# Altium footprint library Infineon Power MOSFET.PcbLib: 137 footprints (part 5 of 9)
Each footprint in its own frame and in the unit in brackets; x right, y up, seen from the top. Pads: shape width x height; smd on the part's side, far side on the other; paste and mask are expansions set on the pad; w line width, h text height; cw(c..) or ccw(c..) is an arc to the next point about the centre after c.
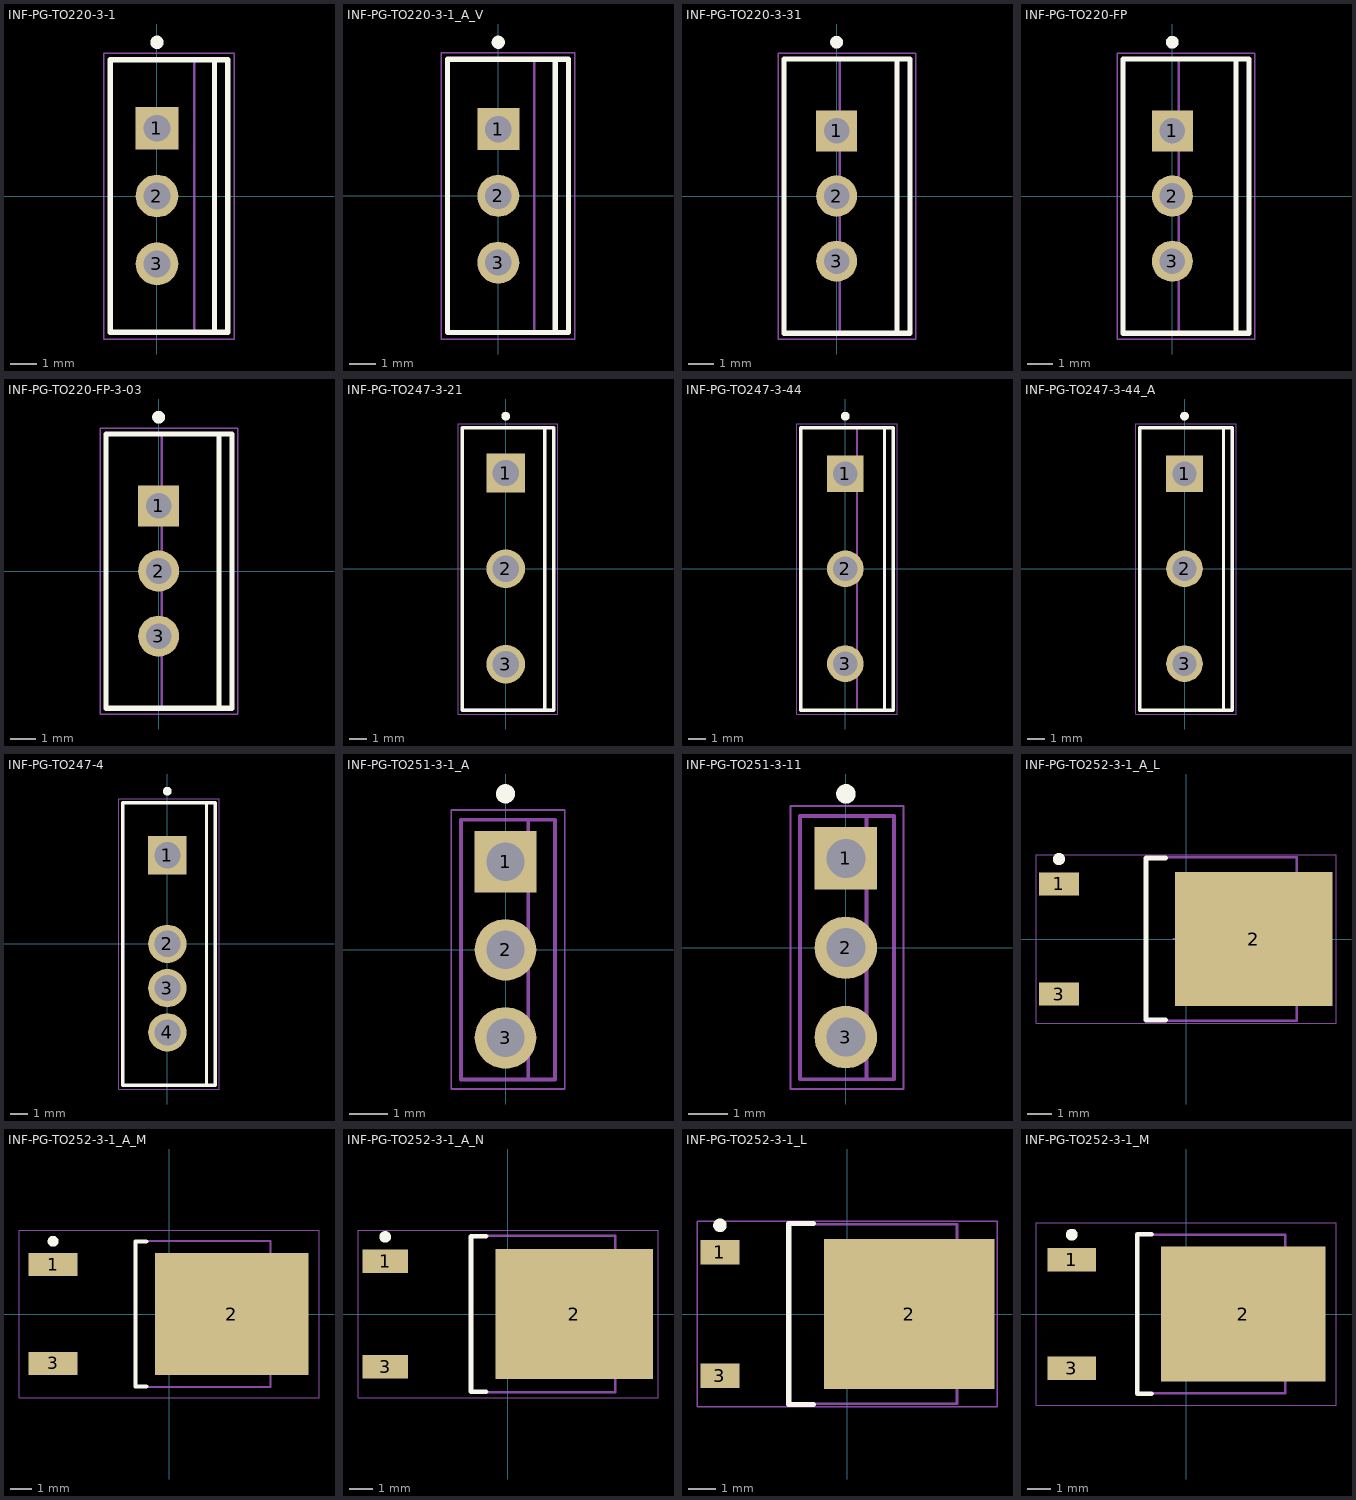
[diagram p4: the footprints below, top view; thin cyan lines are the x and y axes]

## INF-PG-TO220-3-1 [mm] "FM, 3-Leads, Body 10x4.4mm, Pitch 2.54mm"
height 20.7
pads (3):
  rect 1.6x1.6 hole 1: 1(0,2.54)
  round 1.6 hole 1: 2(0,0) 3(0,-2.54)
Top Overlay:
  circle w0.25: c0,5.75 r0.125
  lines w0.2: 2.15,-5.1 2.15,5.1 ; -1.75,-5.1 2.65,-5.1 2.65,5.1 -1.75,5.1 -1.75,-5.1
Mechanical 13:
  lines w0.1: 1.4,-5.1 1.4,5.1 ; -1.75,-5.1 -1.75,5.1 2.65,5.1 2.65,-5.1 -1.75,-5.1
Mechanical 15:
  lines w0.05: -2,-5.35 -2,5.35 2.9,5.35 2.9,-5.35 -2,-5.35
  lines w0.1: -0.5,0 0.5,0 ; 0,-0.5 0,0.5
3D body: height 4.35, standoff 0, extent -0.25,2.015 0.25,3.065
3D body: height 0, standoff -1.6, extent -0.25,2.165 0.25,2.915
3D body: height 4.35, standoff 0, extent -0.25,-0.525 0.25,0.525
3D body: height 0, standoff -1.6, extent -0.25,-0.375 0.25,0.375
3D body: height 4.35, standoff 0, extent -0.25,-3.065 0.25,-2.015
3D body: height 0, standoff -1.6, extent -0.25,-2.915 0.25,-2.165
3D body: height 14.3, standoff 4.35, extent -1.75,-5.1 2.65,5.1
3D body: height 16.08, standoff 14.3, extent 1.4,-4.95 2.65,4.95
3D body: height 16.12, standoff 16.08, extent 1.4,0.356 2.65,4.95
3D body: height 16.12, standoff 16.08, extent 1.4,-4.95 2.65,-0.356
3D body: height 19.73, standoff 19.69, extent 1.4,0.356 2.65,4.95
3D body: height 19.73, standoff 19.69, extent 1.4,-4.95 2.65,-0.356
3D body: height 16.22, standoff 16.11, extent 1.4,0.698 2.65,4.95
3D body: height 16.22, standoff 16.11, extent 1.4,-4.95 2.65,-0.698
3D body: height 19.69, standoff 19.59, extent 1.4,0.698 2.65,4.95
3D body: height 19.69, standoff 19.59, extent 1.4,-4.95 2.65,-0.698
3D body: height 16.39, standoff 16.21, extent 1.4,1.014 2.65,4.95
3D body: height 16.39, standoff 16.21, extent 1.4,-4.95 2.65,-1.014
3D body: height 19.59, standoff 19.42, extent 1.4,1.014 2.65,4.95
3D body: height 19.59, standoff 19.42, extent 1.4,-4.95 2.65,-1.014
3D body: height 16.61, standoff 16.38, extent 1.4,1.29 2.65,4.95
3D body: height 16.61, standoff 16.38, extent 1.4,-4.95 2.65,-1.29
3D body: height 19.42, standoff 19.19, extent 1.4,1.29 2.65,4.95
3D body: height 19.42, standoff 19.19, extent 1.4,-4.95 2.65,-1.29
3D body: height 16.89, standoff 16.61, extent 1.4,1.517 2.65,4.95
3D body: height 16.89, standoff 16.61, extent 1.4,-4.95 2.65,-1.517
3D body: height 19.2, standoff 18.91, extent 1.4,1.517 2.65,4.95
3D body: height 19.2, standoff 18.91, extent 1.4,-4.95 2.65,-1.517
3D body: height 17.21, standoff 16.89, extent 1.4,1.686 2.65,4.95
3D body: height 17.21, standoff 16.89, extent 1.4,-4.95 2.65,-1.686
3D body: height 18.92, standoff 18.6, extent 1.4,1.686 2.65,4.95
3D body: height 18.92, standoff 18.6, extent 1.4,-4.95 2.65,-1.686
3D body: height 17.55, standoff 17.2, extent 1.4,1.79 2.65,4.95
3D body: height 17.55, standoff 17.2, extent 1.4,-4.95 2.65,-1.79
3D body: height 18.6, standoff 18.26, extent 1.4,1.79 2.65,4.95
3D body: height 18.6, standoff 18.26, extent 1.4,-4.95 2.65,-1.79
3D body: height 17.9, standoff 17.54, extent 1.4,1.825 2.65,4.95
3D body: height 17.9, standoff 17.54, extent 1.4,-4.95 2.65,-1.825
3D body: height 18.26, standoff 17.9, extent 1.4,1.825 2.65,4.95
3D body: height 18.26, standoff 17.9, extent 1.4,-4.95 2.65,-1.825
3D body: height 20.7, standoff 19.73, extent 1.4,-4.95 2.65,4.95

## INF-PG-TO220-3-1_A_V [mm] "FM, 3-Leads, Body 10.03x8.98mm, Pitch 2.54mm"
height 20.75
pads (3):
  rect 1.6x1.6 hole 1: 1(0,2.54)
  round 1.6 hole 1: 2(0,0) 3(0,-2.54)
Top Overlay:
  circle w0.25: c0,5.85 r0.125
  lines w0.2: 2.17,-5.2 2.17,5.2 ; -1.93,-5.2 2.67,-5.2 2.67,5.2 -1.93,5.2 -1.93,-5.2
Mechanical 13:
  lines w0.1: 1.37,-5.2 1.37,5.2 ; -1.93,-5.2 -1.93,5.2 2.67,5.2 2.67,-5.2 -1.93,-5.2
Mechanical 15:
  lines w0.05: -2.18,-5.45 -2.18,5.45 2.92,5.45 2.92,-5.45 -2.18,-5.45
  lines w0.1: -0.5,0 0.5,0 ; 0,-0.5 0,0.5
3D body: height 4.8, standoff 0, extent -0.235,1.95 0.235,3.13
3D body: height 0, standoff -1.6, extent -0.235,2.16 0.235,2.92
3D body: height 4.8, standoff 0, extent -0.235,-0.59 0.235,0.59
3D body: height 0, standoff -1.6, extent -0.235,-0.38 0.235,0.38
3D body: height 4.8, standoff 0, extent -0.235,-3.13 0.235,-1.95
3D body: height 0, standoff -1.6, extent -0.235,-2.92 0.235,-2.16
3D body: height 14.35, standoff 4.8, extent -1.93,-5.2 2.67,5.2
3D body: height 16.08, standoff 14.35, extent 1.37,-5.025 2.67,5.025
3D body: height 16.12, standoff 16.08, extent 1.37,0.366 2.67,5.025
3D body: height 16.12, standoff 16.08, extent 1.37,-5.025 2.67,-0.366
3D body: height 19.83, standoff 19.79, extent 1.37,0.366 2.67,5.025
3D body: height 19.83, standoff 19.79, extent 1.37,-5.025 2.67,-0.366
3D body: height 16.22, standoff 16.11, extent 1.37,0.718 2.67,5.025
3D body: height 16.22, standoff 16.11, extent 1.37,-5.025 2.67,-0.718
3D body: height 19.79, standoff 19.68, extent 1.37,0.718 2.67,5.025
3D body: height 19.79, standoff 19.68, extent 1.37,-5.025 2.67,-0.718
3D body: height 16.4, standoff 16.22, extent 1.37,1.042 2.67,5.025
3D body: height 16.4, standoff 16.22, extent 1.37,-5.025 2.67,-1.042
3D body: height 19.69, standoff 19.51, extent 1.37,1.042 2.67,5.025
3D body: height 19.69, standoff 19.51, extent 1.37,-5.025 2.67,-1.042
3D body: height 16.63, standoff 16.39, extent 1.37,1.326 2.67,5.025
3D body: height 16.63, standoff 16.39, extent 1.37,-5.025 2.67,-1.326
3D body: height 19.51, standoff 19.28, extent 1.37,1.326 2.67,5.025
3D body: height 19.51, standoff 19.28, extent 1.37,-5.025 2.67,-1.326
3D body: height 16.91, standoff 16.62, extent 1.37,1.559 2.67,5.025
3D body: height 16.91, standoff 16.62, extent 1.37,-5.025 2.67,-1.559
3D body: height 19.28, standoff 18.99, extent 1.37,1.559 2.67,5.025
3D body: height 19.28, standoff 18.99, extent 1.37,-5.025 2.67,-1.559
3D body: height 17.24, standoff 16.91, extent 1.37,1.732 2.67,5.025
3D body: height 17.24, standoff 16.91, extent 1.37,-5.025 2.67,-1.732
3D body: height 19, standoff 18.67, extent 1.37,1.732 2.67,5.025
3D body: height 19, standoff 18.67, extent 1.37,-5.025 2.67,-1.732
3D body: height 17.59, standoff 17.23, extent 1.37,1.839 2.67,5.025
3D body: height 17.59, standoff 17.23, extent 1.37,-5.025 2.67,-1.839
3D body: height 18.67, standoff 18.32, extent 1.37,1.839 2.67,5.025
3D body: height 18.67, standoff 18.32, extent 1.37,-5.025 2.67,-1.839
3D body: height 17.95, standoff 17.58, extent 1.37,1.875 2.67,5.025
3D body: height 17.95, standoff 17.58, extent 1.37,-5.025 2.67,-1.875
3D body: height 18.32, standoff 17.95, extent 1.37,1.875 2.67,5.025
3D body: height 18.32, standoff 17.95, extent 1.37,-5.025 2.67,-1.875
3D body: height 20.75, standoff 19.83, extent 1.37,-5.025 2.67,5.025

## INF-PG-TO220-3-31 [mm] "FM, 3-Leads, Body 10.5x4.7mm, Pitch 2.54mm"
height 19.6
pads (3):
  rect 1.6x1.6 hole 1: 1(0,2.54)
  round 1.6 hole 1: 2(0,0) 3(0,-2.54)
Top Overlay:
  circle w0.25: c0,6 r0.125
  lines w0.2: 2.355,-5.35 2.355,5.35 ; -2.045,-5.35 -2.045,5.35 2.855,5.35 2.855,-5.35 -2.045,-5.35
Mechanical 13:
  lines w0.1: 0.13,-5.325 0.13,5.325 ; -2.02,-5.325 2.83,-5.325 2.83,5.325 -2.02,5.325 -2.02,-5.325
Mechanical 15:
  lines w0.05: -2.27,-5.575 3.08,-5.575 3.08,5.575 -2.27,5.575 -2.27,-5.575
  lines w0.1: -0.5,0 0.5,0 ; 0,-0.5 0,0.5
3D body: height 19.6, standoff 17.8, extent 0.13,-5.25 2.83,5.25
3D body: height 16.56, standoff 16.25, extent 0.13,-5.25 2.83,-1.55
3D body: height 16.56, standoff 16.25, extent 0.13,1.55 2.83,5.25
3D body: height 16.25, standoff 15.95, extent 0.13,-5.25 2.83,-1.55
3D body: height 16.25, standoff 15.95, extent 0.13,1.55 2.83,5.25
3D body: height 16.85, standoff 16.55, extent 0.13,-5.25 2.83,-1.52
3D body: height 16.85, standoff 16.55, extent 0.13,1.52 2.83,5.25
3D body: height 15.95, standoff 15.66, extent 0.13,-5.25 2.83,-1.52
3D body: height 15.95, standoff 15.66, extent 0.13,1.52 2.83,5.25
3D body: height 17.12, standoff 16.84, extent 0.13,-5.25 2.83,-1.432
3D body: height 17.12, standoff 16.84, extent 0.13,1.432 2.83,5.25
3D body: height 15.66, standoff 15.39, extent 0.13,-5.25 2.83,-1.432
3D body: height 15.66, standoff 15.39, extent 0.13,1.432 2.83,5.25
3D body: height 17.35, standoff 17.11, extent 0.13,-5.25 2.83,-1.289
3D body: height 17.35, standoff 17.11, extent 0.13,1.289 2.83,5.25
3D body: height 15.39, standoff 15.15, extent 0.13,-5.25 2.83,-1.289
3D body: height 15.39, standoff 15.15, extent 0.13,1.289 2.83,5.25
3D body: height 17.54, standoff 17.35, extent 0.13,-5.25 2.83,-1.096
3D body: height 17.54, standoff 17.35, extent 0.13,1.096 2.83,5.25
3D body: height 15.16, standoff 14.96, extent 0.13,-5.25 2.83,-1.096
3D body: height 15.16, standoff 14.96, extent 0.13,1.096 2.83,5.25
3D body: height 17.69, standoff 17.54, extent 0.13,-5.25 2.83,-0.861
3D body: height 17.69, standoff 17.54, extent 0.13,0.861 2.83,5.25
3D body: height 14.97, standoff 14.82, extent 0.13,-5.25 2.83,-0.861
3D body: height 14.97, standoff 14.82, extent 0.13,0.861 2.83,5.25
3D body: height 17.78, standoff 17.68, extent 0.13,-5.25 2.83,-0.593
3D body: height 17.78, standoff 17.68, extent 0.13,0.593 2.83,5.25
3D body: height 14.82, standoff 14.73, extent 0.13,-5.25 2.83,-0.593
3D body: height 14.82, standoff 14.73, extent 0.13,0.593 2.83,5.25
3D body: height 17.8, standoff 17.77, extent 0.13,-5.25 2.83,-0.302
3D body: height 17.8, standoff 17.77, extent 0.13,0.302 2.83,5.25
3D body: height 14.73, standoff 14.7, extent 0.13,-5.25 2.83,-0.302
3D body: height 14.73, standoff 14.7, extent 0.13,0.302 2.83,5.25
3D body: height 14.7, standoff 13.3, extent 0.13,-5.25 2.83,5.25
3D body: height 13.3, standoff 3.15, extent -2.02,-5.325 2.83,5.325
3D body: height 0, standoff -1.6, extent -0.26,-2.915 0.26,-2.165
3D body: height 3.15, standoff 0, extent -0.26,-3.155 0.26,-1.925
3D body: height 0, standoff -1.6, extent -0.26,-0.375 0.26,0.375
3D body: height 3.15, standoff 0, extent -0.26,-0.615 0.26,0.615
3D body: height 0, standoff -1.6, extent -0.26,2.165 0.26,2.915
3D body: height 3.15, standoff 0, extent -0.26,1.925 0.26,3.155

## INF-PG-TO220-FP [mm] "FM, 3-Leads, Body 10.5x4.7mm, Pitch 2.54mm"
height 19.6
pads (3):
  rect 1.6x1.6 hole 1: 1(0,2.54)
  round 1.6 hole 1: 2(0,0) 3(0,-2.54)
Top Overlay:
  circle w0.25: c0,6 r0.125
  lines w0.2: 2.485,-5.35 2.485,5.35 ; -1.915,-5.35 -1.915,5.35 2.985,5.35 2.985,-5.35 -1.915,-5.35
Mechanical 13:
  lines w0.1: 0.26,-5.325 0.26,5.325 ; -1.89,-5.325 2.96,-5.325 2.96,5.325 -1.89,5.325 -1.89,-5.325
Mechanical 15:
  lines w0.05: -2.14,-5.575 3.21,-5.575 3.21,5.575 -2.14,5.575 -2.14,-5.575
  lines w0.1: -0.5,0 0.5,0 ; 0,-0.5 0,0.5
3D body: height 19.6, standoff 17.8, extent 0.26,-5.25 2.96,5.25
3D body: height 16.56, standoff 16.25, extent 0.26,-5.25 2.96,-1.55
3D body: height 16.56, standoff 16.25, extent 0.26,1.55 2.96,5.25
3D body: height 16.25, standoff 15.95, extent 0.26,-5.25 2.96,-1.55
3D body: height 16.25, standoff 15.95, extent 0.26,1.55 2.96,5.25
3D body: height 16.85, standoff 16.55, extent 0.26,-5.25 2.96,-1.52
3D body: height 16.85, standoff 16.55, extent 0.26,1.52 2.96,5.25
3D body: height 15.95, standoff 15.66, extent 0.26,-5.25 2.96,-1.52
3D body: height 15.95, standoff 15.66, extent 0.26,1.52 2.96,5.25
3D body: height 17.12, standoff 16.84, extent 0.26,-5.25 2.96,-1.432
3D body: height 17.12, standoff 16.84, extent 0.26,1.432 2.96,5.25
3D body: height 15.66, standoff 15.39, extent 0.26,-5.25 2.96,-1.432
3D body: height 15.66, standoff 15.39, extent 0.26,1.432 2.96,5.25
3D body: height 17.35, standoff 17.11, extent 0.26,-5.25 2.96,-1.289
3D body: height 17.35, standoff 17.11, extent 0.26,1.289 2.96,5.25
3D body: height 15.39, standoff 15.15, extent 0.26,-5.25 2.96,-1.289
3D body: height 15.39, standoff 15.15, extent 0.26,1.289 2.96,5.25
3D body: height 17.54, standoff 17.35, extent 0.26,-5.25 2.96,-1.096
3D body: height 17.54, standoff 17.35, extent 0.26,1.096 2.96,5.25
3D body: height 15.16, standoff 14.96, extent 0.26,-5.25 2.96,-1.096
3D body: height 15.16, standoff 14.96, extent 0.26,1.096 2.96,5.25
3D body: height 17.69, standoff 17.54, extent 0.26,-5.25 2.96,-0.861
3D body: height 17.69, standoff 17.54, extent 0.26,0.861 2.96,5.25
3D body: height 14.97, standoff 14.82, extent 0.26,-5.25 2.96,-0.861
3D body: height 14.97, standoff 14.82, extent 0.26,0.861 2.96,5.25
3D body: height 17.78, standoff 17.68, extent 0.26,-5.25 2.96,-0.593
3D body: height 17.78, standoff 17.68, extent 0.26,0.593 2.96,5.25
3D body: height 14.82, standoff 14.73, extent 0.26,-5.25 2.96,-0.593
3D body: height 14.82, standoff 14.73, extent 0.26,0.593 2.96,5.25
3D body: height 17.8, standoff 17.77, extent 0.26,-5.25 2.96,-0.302
3D body: height 17.8, standoff 17.77, extent 0.26,0.302 2.96,5.25
3D body: height 14.73, standoff 14.7, extent 0.26,-5.25 2.96,-0.302
3D body: height 14.73, standoff 14.7, extent 0.26,0.302 2.96,5.25
3D body: height 14.7, standoff 13.3, extent 0.26,-5.25 2.96,5.25
3D body: height 13.3, standoff 3.15, extent -1.89,-5.325 2.96,5.325
3D body: height 0, standoff -1.6, extent -0.26,-2.915 0.26,-2.165
3D body: height 3.15, standoff 0, extent -0.26,-3.155 0.26,-1.925
3D body: height 0, standoff -1.6, extent -0.26,-0.375 0.26,0.375
3D body: height 3.15, standoff 0, extent -0.26,-0.615 0.26,0.615
3D body: height 0, standoff -1.6, extent -0.26,2.165 0.26,2.915
3D body: height 3.15, standoff 0, extent -0.26,1.925 0.26,3.155

## INF-PG-TO220-FP-3-03 [mm] "FM, 3-Leads, Body 10.65x4.85mm, Pitch 2.54mm"
height 19.6
pads (3):
  rect 1.6x1.6 hole 1: 1(0,2.54)
  round 1.6 hole 1: 2(0,0) 3(0,-2.54)
Top Overlay:
  circle w0.25: c0,6 r0.125
  lines w0.2: 2.355,-5.35 2.355,5.35 ; -2.045,-5.35 2.855,-5.35 2.855,5.35 -2.045,5.35 -2.045,-5.35
Mechanical 13:
  lines w0.1: 0.13,-5.325 0.13,5.325 ; -2.02,-5.325 -2.02,5.325 2.83,5.325 2.83,-5.325 -2.02,-5.325
Mechanical 15:
  lines w0.05: -2.27,-5.575 -2.27,5.575 3.08,5.575 3.08,-5.575 -2.27,-5.575
  lines w0.1: -0.5,0 0.5,0 ; 0,-0.5 0,0.5
3D body: height 3.15, standoff 0, extent -0.26,1.925 0.26,3.155
3D body: height 0, standoff -1.6, extent -0.26,2.165 0.26,2.915
3D body: height 3.15, standoff 0, extent -0.26,-0.615 0.26,0.615
3D body: height 0, standoff -1.6, extent -0.26,-0.375 0.26,0.375
3D body: height 3.15, standoff 0, extent -0.26,-3.155 0.26,-1.925
3D body: height 0, standoff -1.6, extent -0.26,-2.915 0.26,-2.165
3D body: height 13.3, standoff 3.15, extent -2.02,-5.325 2.83,5.325
3D body: height 14.7, standoff 13.3, extent 0.13,-5.25 2.83,5.25
3D body: height 14.73, standoff 14.7, extent 0.13,0.302 2.83,5.25
3D body: height 14.73, standoff 14.7, extent 0.13,-5.25 2.83,-0.302
3D body: height 17.8, standoff 17.77, extent 0.13,0.302 2.83,5.25
3D body: height 17.8, standoff 17.77, extent 0.13,-5.25 2.83,-0.302
3D body: height 14.82, standoff 14.73, extent 0.13,0.593 2.83,5.25
3D body: height 14.82, standoff 14.73, extent 0.13,-5.25 2.83,-0.593
3D body: height 17.78, standoff 17.68, extent 0.13,0.593 2.83,5.25
3D body: height 17.78, standoff 17.68, extent 0.13,-5.25 2.83,-0.593
3D body: height 14.97, standoff 14.82, extent 0.13,0.861 2.83,5.25
3D body: height 14.97, standoff 14.82, extent 0.13,-5.25 2.83,-0.861
3D body: height 17.69, standoff 17.54, extent 0.13,0.861 2.83,5.25
3D body: height 17.69, standoff 17.54, extent 0.13,-5.25 2.83,-0.861
3D body: height 15.16, standoff 14.96, extent 0.13,1.096 2.83,5.25
3D body: height 15.16, standoff 14.96, extent 0.13,-5.25 2.83,-1.096
3D body: height 17.54, standoff 17.35, extent 0.13,1.096 2.83,5.25
3D body: height 17.54, standoff 17.35, extent 0.13,-5.25 2.83,-1.096
3D body: height 15.39, standoff 15.15, extent 0.13,1.289 2.83,5.25
3D body: height 15.39, standoff 15.15, extent 0.13,-5.25 2.83,-1.289
3D body: height 17.35, standoff 17.11, extent 0.13,1.289 2.83,5.25
3D body: height 17.35, standoff 17.11, extent 0.13,-5.25 2.83,-1.289
3D body: height 15.66, standoff 15.39, extent 0.13,1.432 2.83,5.25
3D body: height 15.66, standoff 15.39, extent 0.13,-5.25 2.83,-1.432
3D body: height 17.12, standoff 16.84, extent 0.13,1.432 2.83,5.25
3D body: height 17.12, standoff 16.84, extent 0.13,-5.25 2.83,-1.432
3D body: height 15.95, standoff 15.66, extent 0.13,1.52 2.83,5.25
3D body: height 15.95, standoff 15.66, extent 0.13,-5.25 2.83,-1.52
3D body: height 16.85, standoff 16.55, extent 0.13,1.52 2.83,5.25
3D body: height 16.85, standoff 16.55, extent 0.13,-5.25 2.83,-1.52
3D body: height 16.25, standoff 15.95, extent 0.13,1.55 2.83,5.25
3D body: height 16.25, standoff 15.95, extent 0.13,-5.25 2.83,-1.55
3D body: height 16.56, standoff 16.25, extent 0.13,1.55 2.83,5.25
3D body: height 16.56, standoff 16.25, extent 0.13,-5.25 2.83,-1.55
3D body: height 19.6, standoff 17.8, extent 0.13,-5.25 2.83,5.25

## INF-PG-TO247-3-21 [mm] "FM, 3-Leads, Body 5.03x15.87mm, Pitch 5.44mm"
height 25.57
pads (3):
  rect 2.2x2.2 hole 1.5: 1(0,5.46)
  round 2.2 hole 1.5: 2(0,0.01) 3(0,-5.44)
Top Overlay:
  circle w0.25: c0,8.7 r0.125
  lines w0.2: 2.23,-8.05 2.23,8.05 ; -2.47,-8.05 2.73,-8.05 2.73,8.05 -2.47,8.05 -2.47,-8.05
Mechanical 13:
  lines w0.1: -2.47,-8.025 -2.47,8.025 2.73,8.025 2.73,-8.025 -2.47,-8.025
Mechanical 15:
  lines w0.05: -2.72,-8.275 -2.72,8.275 2.98,8.275 2.98,-8.275 -2.72,-8.275
  lines w0.1: -0.5,0 0.5,0 ; 0,-0.5 0,0.5
3D body: height 4.17, standoff 0, extent -0.325,4.375 0.325,6.525
3D body: height 0, standoff -1.6, extent -0.325,4.85 0.325,6.05
3D body: height 4.17, standoff 0, extent -0.325,-1.065 0.325,1.085
3D body: height 0, standoff -1.6, extent -0.325,-0.59 0.325,0.61
3D body: height 4.17, standoff 0, extent -0.325,-6.505 0.325,-4.355
3D body: height 0, standoff -1.6, extent -0.325,-6.03 0.325,-4.83
3D body: height 25.57, standoff 4.17, extent -2.47,-8.025 2.73,8.025

## INF-PG-TO247-3-44 [mm] "FM, 3-Leads, Body 5.02x15.94mm, Pitch 5.44mm"
height 25.5
pads (3):
  rect 2.1x2.1 hole 1.4: 1(0,5.44)
  round 2.1 hole 1.4: 2(0,0) 3(0,-5.44)
Top Overlay:
  circle w0.25: c0,8.75 r0.125
  lines w0.2: 2.245,-8.1 2.245,8.1 ; -2.555,-8.1 -2.555,8.1 2.745,8.1 2.745,-8.1 -2.555,-8.1
Mechanical 13:
  lines w0.1: 0.67,-8.075 0.67,8.075 ; -2.53,-8.075 2.72,-8.075 2.72,8.075 -2.53,8.075 -2.53,-8.075
Mechanical 15:
  lines w0.05: -2.78,-8.325 2.97,-8.325 2.97,8.325 -2.78,8.325 -2.78,-8.325
  lines w0.1: -0.5,0 0.5,0 ; 0,-0.5 0,0.5
3D body: height 25.5, standoff 4.1, extent -2.53,-8.075 2.72,8.075
3D body: height 0, standoff -1.6, extent -0.31,-6.04 0.31,-4.84
3D body: height 4.1, standoff 0, extent -0.31,-6.52 0.31,-4.36
3D body: height 0, standoff -1.6, extent -0.31,-0.6 0.31,0.6
3D body: height 4.1, standoff 0, extent -0.31,-1.08 0.31,1.08
3D body: height 0, standoff -1.6, extent -0.31,4.84 0.31,6.04
3D body: height 4.1, standoff 0, extent -0.31,4.36 0.31,6.52

## INF-PG-TO247-3-44_A [mm] "FM, 3-Leads, Body 15.915x5.02mm, Pitch 5.44mm"
height 25.57
pads (3):
  rect 2.1x2.1 hole 1.4: 1(0,5.44)
  round 2.1 hole 1.4: 2(0,0) 3(0,-5.44)
Top Overlay:
  circle w0.25: c0,8.75 r0.125
  lines w0.2: 2.235,-8.1 2.235,8.1 ; -2.565,-8.1 2.735,-8.1 2.735,8.1 -2.565,8.1 -2.565,-8.1
Mechanical 13:
  lines w0.1: 2.71,-8.075 2.71,8.075 ; 2.71,-8.075 -2.54,-8.075 -2.54,8.075 2.71,8.075 ; 2.71,-8.075 2.71,8.075
Mechanical 15:
  lines w0.05: -2.79,-8.325 -2.79,8.325 2.96,8.325 2.96,-8.325 -2.79,-8.325
  lines w0.1: -0.5,0 0.5,0 ; 0,-0.5 0,0.5
3D body: height 4.1, standoff 0, extent -0.31,4.36 0.31,6.52
3D body: height 0, standoff -1.6, extent -0.31,4.84 0.31,6.04
3D body: height 4.1, standoff 0, extent -0.31,-1.08 0.31,1.08
3D body: height 0, standoff -1.6, extent -0.31,-0.6 0.31,0.6
3D body: height 4.1, standoff 0, extent -0.31,-6.52 0.31,-4.36
3D body: height 0, standoff -1.6, extent -0.31,-6.04 0.31,-4.84
3D body: height 25.57, standoff 4.1, extent -2.54,-8.075 2.71,8.075
3D body: height 25.57, standoff 17.62, extent 2.71,-7.95 2.71,7.95
3D body: height 17.66, standoff 17.62, extent 2.71,0.351 2.71,7.95
3D body: height 17.66, standoff 17.62, extent 2.71,-7.95 2.71,-0.351
3D body: height 21.22, standoff 21.19, extent 2.71,0.351 2.71,7.95
3D body: height 21.22, standoff 21.19, extent 2.71,-7.95 2.71,-0.351
3D body: height 17.76, standoff 17.65, extent 2.71,0.689 2.71,7.95
3D body: height 17.76, standoff 17.65, extent 2.71,-7.95 2.71,-0.689
3D body: height 21.19, standoff 21.08, extent 2.71,0.689 2.71,7.95
3D body: height 21.19, standoff 21.08, extent 2.71,-7.95 2.71,-0.689
3D body: height 17.93, standoff 17.76, extent 2.71,1 2.71,7.95
3D body: height 17.93, standoff 17.76, extent 2.71,-7.95 2.71,-1
3D body: height 21.09, standoff 20.92, extent 2.71,1 2.71,7.95
3D body: height 21.09, standoff 20.92, extent 2.71,-7.95 2.71,-1
3D body: height 18.15, standoff 17.92, extent 2.71,1.273 2.71,7.95
3D body: height 18.15, standoff 17.92, extent 2.71,-7.95 2.71,-1.273
3D body: height 20.92, standoff 20.69, extent 2.71,1.273 2.71,7.95
3D body: height 20.92, standoff 20.69, extent 2.71,-7.95 2.71,-1.273
3D body: height 18.42, standoff 18.15, extent 2.71,1.497 2.71,7.95
3D body: height 18.42, standoff 18.15, extent 2.71,-7.95 2.71,-1.497
3D body: height 20.7, standoff 20.42, extent 2.71,1.497 2.71,7.95
3D body: height 20.7, standoff 20.42, extent 2.71,-7.95 2.71,-1.497
3D body: height 18.74, standoff 18.42, extent 2.71,1.663 2.71,7.95
3D body: height 18.74, standoff 18.42, extent 2.71,-7.95 2.71,-1.663
3D body: height 20.43, standoff 20.11, extent 2.71,1.663 2.71,7.95
3D body: height 20.43, standoff 20.11, extent 2.71,-7.95 2.71,-1.663
3D body: height 19.07, standoff 18.73, extent 2.71,1.765 2.71,7.95
3D body: height 19.07, standoff 18.73, extent 2.71,-7.95 2.71,-1.765
3D body: height 20.11, standoff 19.77, extent 2.71,1.765 2.71,7.95
3D body: height 20.11, standoff 19.77, extent 2.71,-7.95 2.71,-1.765
3D body: height 19.42, standoff 19.07, extent 2.71,1.8 2.71,7.95
3D body: height 19.42, standoff 19.07, extent 2.71,-7.95 2.71,-1.8
3D body: height 19.78, standoff 19.42, extent 2.71,1.8 2.71,7.95
3D body: height 19.78, standoff 19.42, extent 2.71,-7.95 2.71,-1.8
3D body: height 25.57, standoff 21.22, extent 2.71,-7.95 2.71,7.95

## INF-PG-TO247-4 [mm] "FM, 4-Leads, Body 16.15x5.25mm, Pitch 2.54mm"
height 25.5
pads (4):
  rect 2.2x2.2 hole 1.5: 1(0,5.08)
  round 2.2 hole 1.5: 2(0,0) 3(0,-2.54) 4(0,-5.08)
Top Overlay:
  circle w0.25: c0,8.75 r0.125
  lines w0.2: 2.245,-8.1 2.245,8.1 ; -2.555,-8.1 -2.555,8.1 2.745,8.1 2.745,-8.1 -2.555,-8.1
Mechanical 13:
  lines w0.1: 2.72,-8.075 2.72,8.075 ; 2.72,-8.075 -2.53,-8.075 -2.53,8.075 2.72,8.075 ; 2.72,-8.075 2.72,8.075
Mechanical 15:
  lines w0.05: -2.78,-8.325 2.97,-8.325 2.97,8.325 -2.78,8.325 -2.78,-8.325
  lines w0.1: -0.5,0 0.5,0 ; 0,-0.5 0,0.5
3D body: height 25.5, standoff 25.5, extent 2.72,-7.95 2.72,7.95
3D body: height 25.5, standoff 4.02, extent -2.53,-8.075 2.72,8.075
3D body: height 0, standoff -1.6, extent -0.3,-5.68 0.3,-4.48
3D body: height 4.02, standoff 0, extent -0.3,-5.78 0.3,-4.38
3D body: height 0, standoff -1.6, extent -0.3,-3.14 0.3,-1.94
3D body: height 4.02, standoff 0, extent -0.3,-3.24 0.3,-1.84
3D body: height 0, standoff -1.6, extent -0.3,-0.6 0.3,0.6
3D body: height 4.02, standoff 0, extent -0.3,-0.7 0.3,0.7
3D body: height 0, standoff -1.6, extent -0.3,4.48 0.3,5.68
3D body: height 4.02, standoff 0, extent -0.3,4.38 0.3,5.78

## INF-PG-TO251-3-1_A [mm] "TO251, 3-Leads, Body 6.54x2.29mm, Pitch 2.29mm"
height 9.88
pads (3):
  rect 1.6x1.6 hole 1: 1(0,2.285)
  round 1.6 hole 1: 2(0,-0.005) 3(0,-2.295)
Top Overlay:
  circle w0.25: c0,4.05 r0.125
Mechanical 13:
  lines w0.1: 0.59,-3.375 0.59,3.375 ; -1.16,-3.375 -1.16,3.375 1.29,3.375 1.29,-3.375 -1.16,-3.375
Mechanical 15:
  lines w0.05: -1.41,-3.625 -1.41,3.625 1.54,3.625 1.54,-3.625 -1.41,-3.625
  lines w0.1: -0.5,0 0.5,0 ; 0,-0.5 0,0.5
3D body: height 1.9, standoff 0, extent -0.265,1.835 0.265,2.735
3D body: height 0, standoff -1.6, extent -0.265,1.9 0.265,2.67
3D body: height 1.9, standoff 0, extent -0.265,-0.455 0.265,0.445
3D body: height 0, standoff -1.6, extent -0.265,-0.39 0.265,0.38
3D body: height 1.9, standoff 0, extent -0.265,-2.745 0.265,-1.845
3D body: height 0, standoff -1.6, extent -0.265,-2.68 0.265,-1.91
3D body: height 8.73, standoff 1.9, extent -1.16,-3.375 1.29,3.375
3D body: height 9.88, standoff 8.73, extent 0.59,-2.625 1.29,2.625

## INF-PG-TO251-3-11 [mm] "FM, 3-Leads, Body 6.54x2.285mm, Pitch 2.29mm"
height 8.36
pads (3):
  rect 1.6x1.6 hole 1: 1(0,2.285)
  round 1.6 hole 1: 2(0,-0.005) 3(0,-2.295)
Top Overlay:
  circle w0.25: c0.002,3.937 r0.125
Mechanical 13:
  lines w0.1: 0.53,-3.375 0.53,3.375 ; -1.17,-3.375 1.23,-3.375 1.23,3.375 -1.17,3.375 -1.17,-3.375
Mechanical 15:
  lines w0.05: -1.42,-3.625 1.48,-3.625 1.48,3.625 -1.42,3.625 -1.42,-3.625
  lines w0.1: -0.5,0 0.5,0 ; 0,-0.5 0,0.5
3D body: height 8.36, standoff 7.36, extent 0.53,-2.625 1.23,2.625
3D body: height 7.36, standoff 0.9, extent -1.17,-3.375 1.23,3.375
3D body: height 0, standoff -1.6, extent -0.26,-2.68 0.26,-1.91
3D body: height 0.9, standoff 0, extent -0.26,-2.745 0.26,-1.845
3D body: height 0, standoff -1.6, extent -0.26,-0.39 0.26,0.38
3D body: height 0.9, standoff 0, extent -0.26,-0.455 0.26,0.445
3D body: height 0, standoff -1.6, extent -0.26,1.9 0.26,2.67
3D body: height 0.9, standoff 0, extent -0.26,1.835 0.26,2.735

## INF-PG-TO252-3-1_A_L [mm] "DPAK, 3-Leads, Body 6.565x6.095mm, Pitch 2.29mm, IPC High Density"
height 2.39
pads (3):
  rect 1.65x0.95 smd: 1(-5.25,2.28) 3(-5.25,-2.28)
  rect 6.5x5.55 smd: 2(2.8,0)
Top Overlay:
  circle w0.25: c-5.25,3.305 r0.125
  lines w0.2: -0.85,-3.35 -1.65,-3.35 -1.65,3.35 -0.85,3.35
Mechanical 13:
  lines w0.1: -1.65,-3.375 -1.65,3.375 4.58,3.375 4.58,-3.375 -1.65,-3.375
Mechanical 15:
  lines w0.05: -6.2,-3.475 -6.2,3.475 6.2,3.475 6.2,-3.475 -6.2,-3.475
  lines w0.1: -0.5,0 0.5,0 ; 0,-0.5 0,0.5
3D body: height 2.39, standoff 0, extent -1.65,-3.375 4.58,3.375

## INF-PG-TO252-3-1_A_M [mm] "DPAK, 3-Leads, Body 6.565x6.095mm, Pitch 2.29mm, IPC Low Density"
height 2.39
pads (3):
  rect 2.25x1.05 smd: 1(-5.35,2.28) 3(-5.35,-2.28)
  rect 7.1x5.65 smd: 2(2.9,0)
Top Overlay:
  circle w0.25: c-5.35,3.355 r0.125
  lines w0.2: -1.05,-3.35 -1.55,-3.35 -1.55,3.35 -1.05,3.35
Mechanical 13:
  lines w0.1: -1.55,-3.375 4.68,-3.375 4.68,3.375 -1.55,3.375 -1.55,-3.375
Mechanical 15:
  lines w0.05: -6.925,-3.875 6.925,-3.875 6.925,3.875 -6.925,3.875 -6.925,-3.875
  lines w0.1: -0.5,0 0.5,0 ; 0,-0.5 0,0.5
3D body: height 2.39, standoff 0, extent -1.55,-3.375 4.68,3.375

## INF-PG-TO252-3-1_A_N [mm] "DPAK, 3-Leads, Body 6.565x6.1mm, Pitch 2.28mm, IPC Medium Density"
height 2.39
pads (3):
  rect 1.95x1 smd: 1(-5.3,2.28) 3(-5.3,-2.28)
  rect 6.8x5.6 smd: 2(2.85,0)
Top Overlay:
  circle w0.25: c-5.3,3.33 r0.125
  lines w0.2: -0.95,-3.35 -1.6,-3.35 -1.6,3.35 -0.95,3.35
Mechanical 13:
  lines w0.1: -1.6,-3.375 4.63,-3.375 4.63,3.375 -1.6,3.375 -1.6,-3.375
Mechanical 15:
  lines w0.05: -6.475,-3.625 6.475,-3.625 6.475,3.625 -6.475,3.625 -6.475,-3.625
  lines w0.1: -0.5,0 0.5,0 ; 0,-0.5 0,0.5
3D body: height 2.39, standoff 0, extent -1.6,-3.375 4.63,3.375

## INF-PG-TO252-3-1_L [mm] "DPAK, 3-Leads, Body 6.525x6.12mm, Pitch 2.28mm, IPC High Density"
height 2.35
pads (3):
  rect 1.45x0.9 smd: 1(-4.7,2.28) 3(-4.7,-2.28)
  rect 6.3x5.55 smd: 2(2.3,0)
Top Overlay:
  circle w0.25: c-4.7,3.28 r0.125
  lines w0.2: -1.25,-3.35 -2.15,-3.35 -2.15,3.35 -1.25,3.35
Mechanical 13:
  lines w0.1: -2.15,-3.325 4.07,-3.325 4.07,3.325 -2.15,3.325 -2.15,-3.325
Mechanical 15:
  lines w0.05: -5.55,-3.425 5.55,-3.425 5.55,3.425 -5.55,3.425 -5.55,-3.425
  lines w0.1: -0.5,0 0.5,0 ; 0,-0.5 0,0.5
3D body: height 2.35, standoff 0, extent -2.15,-3.325 4.07,3.325

## INF-PG-TO252-3-1_M [mm] "DPAK, 3-Leads, Body 6.525x6.12mm, Pitch 2.28mm, IPC Low Density"
height 2.35
pads (3):
  rect 2.05x1 smd: 1(-4.8,2.28) 3(-4.8,-2.28)
  rect 6.9x5.65 smd: 2(2.4,0)
Top Overlay:
  circle w0.25: c-4.8,3.33 r0.125
  lines w0.2: -1.45,-3.35 -2.05,-3.35 -2.05,3.35 -1.45,3.35
Mechanical 13:
  lines w0.1: -2.05,-3.325 -2.05,3.325 4.17,3.325 4.17,-3.325 -2.05,-3.325
Mechanical 15:
  lines w0.05: -6.3,-3.825 -6.3,3.825 6.3,3.825 6.3,-3.825 -6.3,-3.825
  lines w0.1: -0.5,0 0.5,0 ; 0,-0.5 0,0.5
3D body: height 2.35, standoff 0, extent -2.05,-3.325 4.17,3.325